# Altium footprint library CGRA_pcblib.PcbLib: 54 footprints (part 4 of 4)
Each footprint in its own frame and in the unit in brackets; x right, y up, seen from the top. Pads: shape width x height; smd on the part's side, far side on the other; paste and mask are expansions set on the pad; w line width, h text height; cw(c..) or ccw(c..) is an arc to the next point about the centre after c.
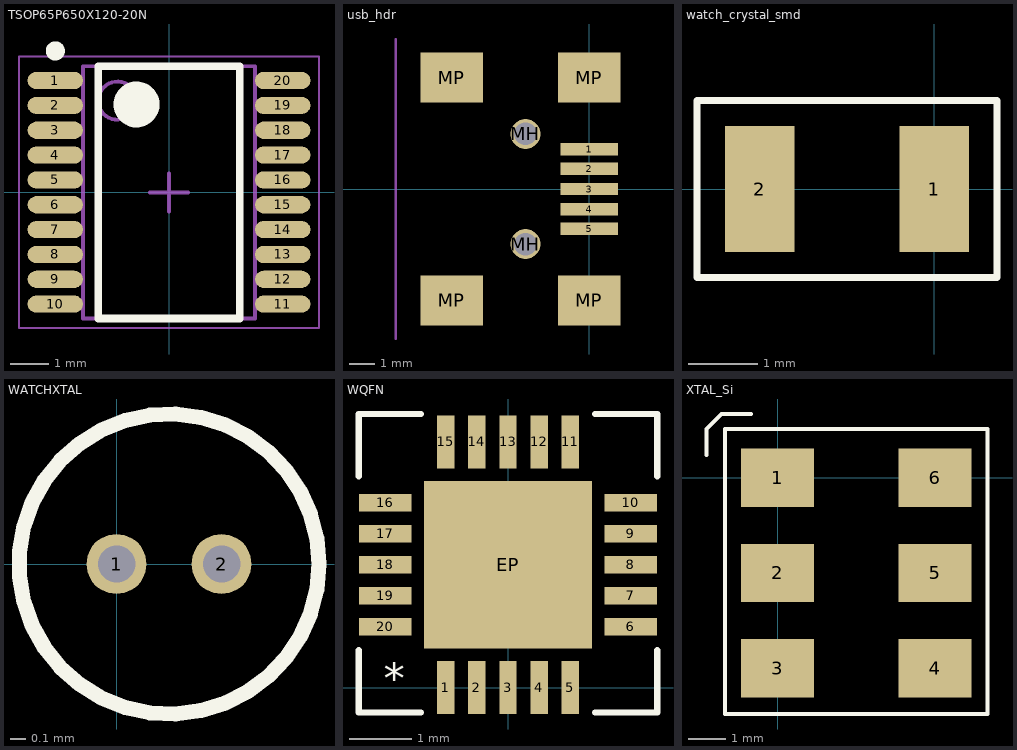
[diagram p3: the footprints below, top view; thin cyan lines are the x and y axes]

## TSOP65P650X120-20N [mm] "TSOP, 20-Leads, Body 6.50x4.40mm, Pitch 0.65mm, IPC Medium Density"
height 1.2
pads (20):
  oval 1.45x0.45 smd: 1(-2.975,2.925) 2(-2.975,2.275) 3(-2.975,1.625) 4(-2.975,0.975) 5(-2.975,0.325) 6(-2.975,-0.325) 7(-2.975,-0.975) 8(-2.975,-1.625) 9(-2.975,-2.275) 10(-2.975,-2.925) 11(2.975,-2.925) 12(2.975,-2.275) 13(2.975,-1.625) 14(2.975,-0.975) 15(2.975,-0.325) 16(2.975,0.325) 17(2.975,0.975) 18(2.975,1.625) 19(2.975,2.275) 20(2.975,2.925)
Top Overlay:
  circle w0.25: c-2.975,3.7 r0.125
  circle w0.6: c-0.85,2.3 r0.3
  lines w0.2: -1.85,-3.3 -1.85,3.3 1.85,3.3 1.85,-3.3 -1.85,-3.3
Mechanical 13:
  circle w0.1: c-1.35,2.4 r0.5
  lines w0.1: -2.25,-3.3 -2.25,3.3 2.25,3.3 2.25,-3.3 -2.25,-3.3
Mechanical 15:
  lines w0.05: -3.925,-3.55 -3.925,3.55 3.925,3.55 3.925,-3.55 -3.925,-3.55
  lines w0.1: -0.5,0 0.5,0 ; 0,-0.5 0,0.5
3D body: height 1.2, standoff 0.1, extent -2.25,-3.3 2.25,3.3

## usb_hdr [mm]
pads (11):
  rect 2.3x0.5 smd mask+0.051: 1(0,1.6) 2(0,0.8) 3(0,0) 4(0,-0.8) 5(0,-1.6)
  round 1.194 hole 0.9 unplated: MH(-2.55,-2.2) MH(-2.55,2.2)
  rect 2.5x2 smd mask+0.051: MP(-5.5,-4.45) MP(-5.5,4.45) MP(0,-4.45) MP(0,4.45)
Mechanical 1:
  lines w0.1: -7.75,-6 -7.75,6

## watch_crystal_smd [mm]
pads (2):
  rect 1x1.8 smd: 1(0,0) 2(-2.5,0)
Top Overlay:
  lines w0.1: -3.4,-1.27 -3.4,1.27 -1.905,1.27 0.9,1.27 0.9,-1.27 -3.4,-1.27

## WATCHXTAL [mm]
pads (2):
  round 0.4 hole 0.25: 1(0,0) 2(0.7,0)
Top Overlay:
  circle w0.1: c0.35,0 r1

## WQFN [mm]
pads (21):
  rect 0.28x0.85 smd mask+0.051: 1(-1,0) 2(-0.5,0) 3(0,0) 4(0.5,0) 5(1,0) 11(1,3.95) 12(0.5,3.95) 13(0,3.95) 14(-0.5,3.95) 15(-1,3.95)
  rect 0.85x0.28 smd mask+0.051: 6(1.975,0.975) 7(1.975,1.475) 8(1.975,1.975) 9(1.975,2.475) 10(1.975,2.975) 16(-1.975,2.975) 17(-1.975,2.475) 18(-1.975,1.975) 19(-1.975,1.475) 20(-1.975,0.975)
  rect 2.7x2.7 smd mask+0.051: EP(0,1.975)
Top Overlay:
  lines w0.1: -2.4,0.6 -2.4,-0.4 -1.4,-0.4 ; -2.4,3.4 -2.4,4.4 -1.4,4.4 ; 1.4,-0.4 2.4,-0.4 2.4,0.6 ; 1.4,4.4 2.4,4.4 2.4,3.4
  text "*" at -2,-0.1 h0.5

## XTAL_Si [mm]
pads (6):
  rect 1.95x1.55 smd: 1(0,0) 2(0,-2.54) 3(0,-5.08) 4(4.2,-5.08) 5(4.2,-2.54) 6(4.2,0)
Top Overlay:
  lines w0.1: -1.9,0.6 -1.9,1.3 -1.5,1.7 -0.7,1.7 ; -1.4,-6.3 -1.4,1.3 5.6,1.3 5.6,-6.3 -1.4,-6.3